# Altium footprint library CAMERON.PcbLib: 46 footprints (part 2 of 3)
Each footprint in its own frame and in the unit in brackets; x right, y up, seen from the top. Pads: shape width x height; smd on the part's side, far side on the other; paste and mask are expansions set on the pad; w line width, h text height; cw(c..) or ccw(c..) is an arc to the next point about the centre after c.
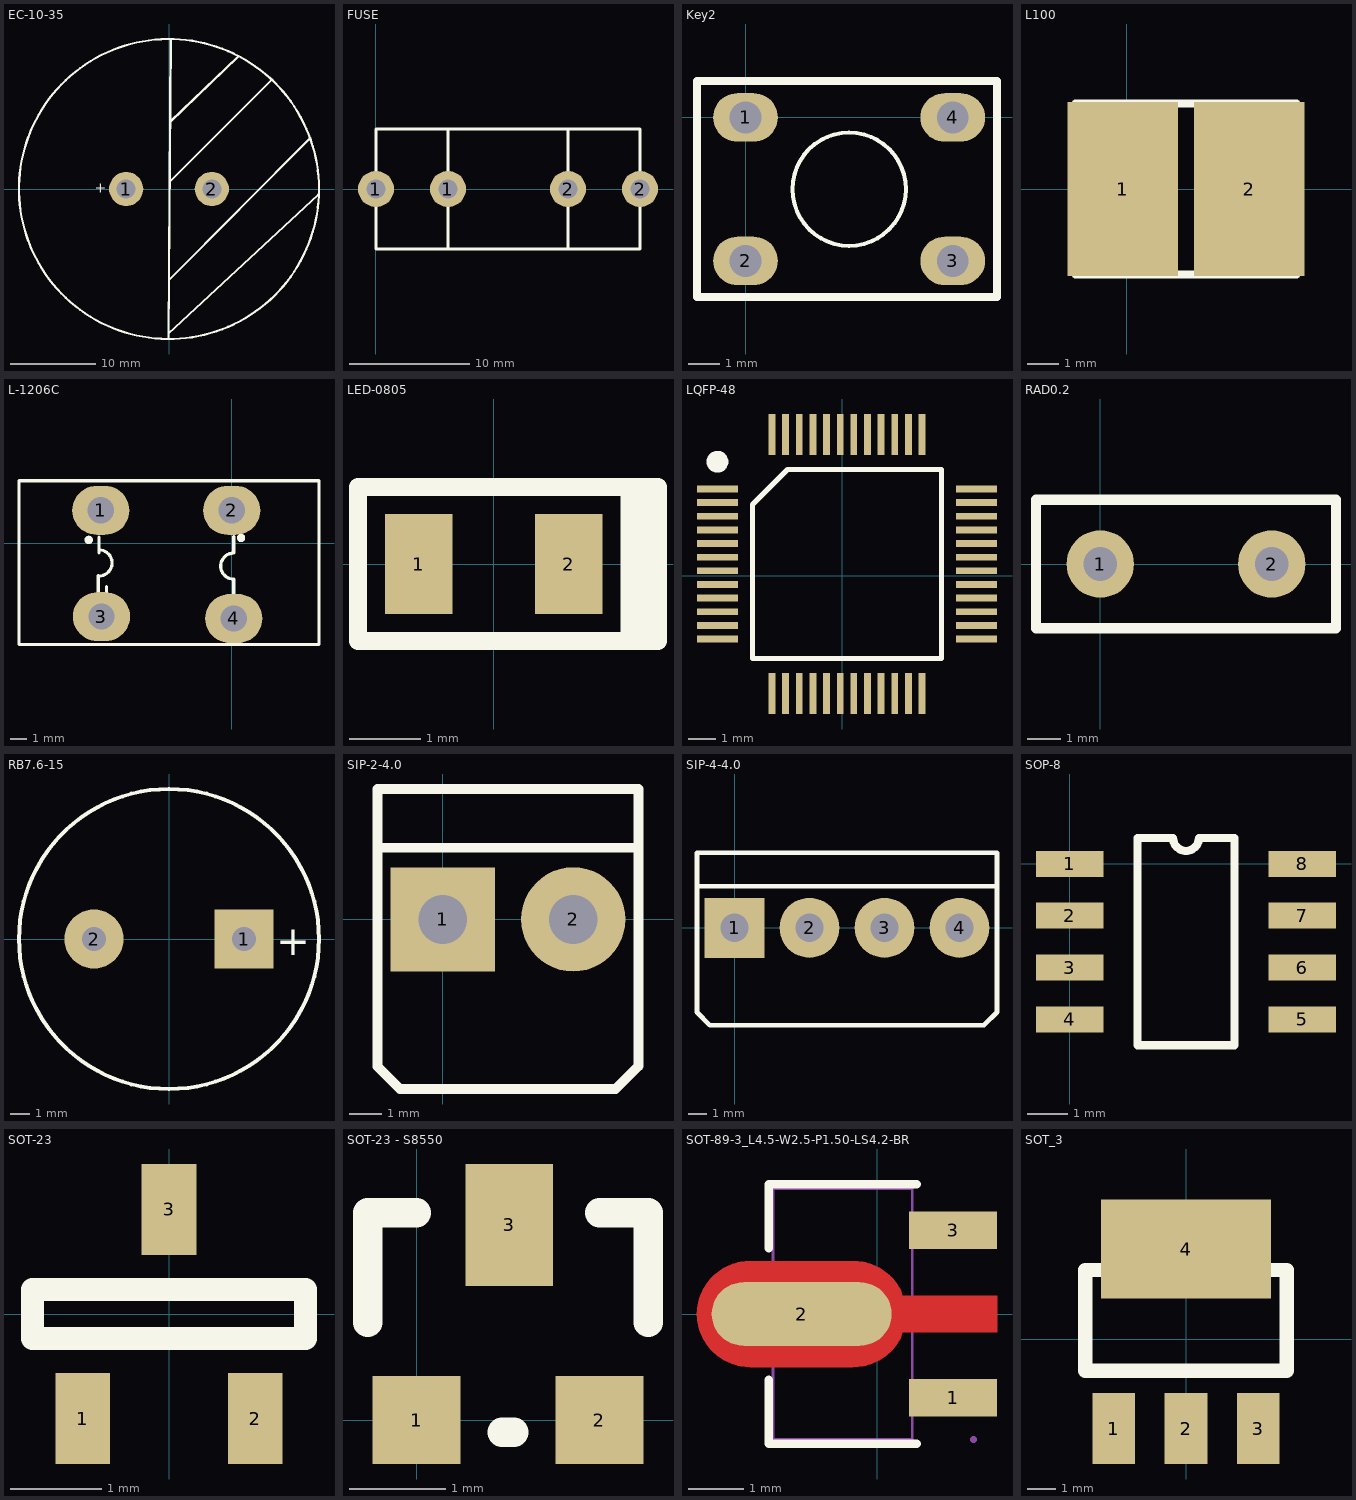
[diagram p1: the footprints below, top view; thin cyan lines are the x and y axes]

## EC-10-35 [mm]
pads (2):
  round 4 hole 2.2: 1(-5,0) 2(5,0)
Top Overlay:
  circle w0.254: c0,0 r17.5
  lines w0.254: -0.072,-17.45 0.203,17.475 ; -0.07,-16.89 17.402,-0.675 ; 0.031,-10.571 16.485,5.944 ; 0.072,0.737 0.072,0.834 11.989,12.751 12.04,12.751 ; 0.173,7.878 8.026,15.392
  text "+" at -8.636,-0.432 h1.2

## FUSE [mm]
pads (4):
  round 3 hole 1.6: 1(0,0) 1(6,0) 2(16,0) 2(22,0)
Top Overlay:
  lines w0.254: 6,-5 6,5 ; 16,-5 16,5 ; 0,-5 0,5 22,5 22,-5 0,-5

## Key2 [mm]
pads (4):
  oval 2.032x1.524 hole 1: 1(0,0) 2(0,-4.5) 3(6.5,-4.5) 4(6.5,0)
Top Overlay:
  circle w0.127: c3.25,-2.25 r1.778
  lines w0.254: 7.89,1.092 7.89,-5.63 -1.524,-5.63 -1.524,1.14 7.89,1.14

## L100 [mm]
pads (2):
  rect 3.5x5.5 smd paste+0: 1(-0.127,0)
  rect 3.5x5.5 smd: 2(3.873,0)
Top Overlay:
  lines w0.254: -1.627,-2.7 -1.627,2.7 5.373,2.7 5.373,-2.7 -1.627,-2.7

## L-1206C [mm]
pads (4):
  oval 3.5x3 hole 1.6: 1(-8,2) 2(0,2) 3(-7.96,-4.498) 4(0.127,-4.609)
Top Overlay:
  circle w0.254: c-8.739,0.193 r0.127
  circle w0.254: c0.571,0.312 r0.127
  lines w0.2: -13,-6.2 -13,3.8 ; -8.159,-4 -8.159,-2 ; -8.114,-2.017 ccw(c-8.114,-1.217) -8.114,-0.417 ; -8.114,-0.609 -8.114,0.351 ; -7.655,-3.067 -7.655,-2.667 ; 0.127,-4.209 0.127,-2.209 cw(c0.127,-1.409) 0.127,-0.609 0.127,0.391 ; 0.142,-5.885 0.142,-5.485 ; 5.334,-6.2 5.334,3.8
  lines w0.203: -13,-6.2 5.334,-6.2 ; -13,3.8 5.334,3.8

## LED-0805 [mm]
height 0.8
pads (2):
  rect 0.95x1.4 smd: 1(-1.05,0) 2(1.05,0)
Top Overlay:
  lines w0.254: 1.9,-1.08 1.9,1.08 ; 2.1,-1.08 2.1,1.08 ; -1.9,-1.08 -1.9,1.08 2.3,1.08 2.3,-1.08 -1.9,-1.08

## LQFP-48 [mm]
pads (48):
  rect 1.5x0.25 smd: 1(-4.568,3.175) 2(-4.568,2.675) 3(-4.568,2.175) 4(-4.568,1.675) 5(-4.568,1.175) 6(-4.568,0.675) 7(-4.568,0.175) 8(-4.568,-0.325) 9(-4.568,-0.825) 10(-4.568,-1.325) 11(-4.568,-1.825) 12(-4.568,-2.325) 25(4.932,-2.325) 26(4.932,-1.825) 27(4.932,-1.325) 28(4.932,-0.825) 29(4.932,-0.325) 30(4.932,0.175) 31(4.932,0.675) 32(4.932,1.175) 33(4.932,1.675) 34(4.932,2.175) 35(4.932,2.675) 36(4.932,3.175)
  rect 0.25x1.5 smd: 13(-2.568,-4.325) 14(-2.068,-4.325) 15(-1.568,-4.325) 16(-1.068,-4.325) 17(-0.568,-4.325) 18(-0.068,-4.325) 19(0.432,-4.325) 20(0.932,-4.325) 21(1.432,-4.325) 22(1.932,-4.325) 23(2.432,-4.325) 24(2.932,-4.325) 37(2.932,5.175) 38(2.432,5.175) 39(1.932,5.175) 40(1.432,5.175) 41(0.932,5.175) 42(0.432,5.175) 43(-0.068,5.175) 44(-0.568,5.175) 45(-1.068,5.175) 46(-1.568,5.175) 47(-2.068,5.175) 48(-2.568,5.175)
Top Overlay:
  circle w0.4: c-4.568,4.175 r0.2
  lines w0.2: -3.283,-3.04 -3.283,2.605 -1.998,3.89 3.647,3.89 3.647,-3.04 -3.283,-3.04

## RAD0.2 [mm]
pads (2):
  round 2 hole 1: 1(0,0) 2(5.08,0)
Top Overlay:
  lines w0.305: -1.905,-1.905 6.985,-1.905 6.985,1.905 -1.905,1.905 -1.905,-1.905

## RB7.6-15 [mm]
pads (2):
  rect 3x3 hole 1.2: 1(3.81,0)
  round 3 hole 1.2: 2(-3.81,0)
Top Overlay:
  circle w0.2: c0,0 r7.62
  text "+" at 5.436,-0.813 h1.5

## SIP-2-4.0 [mm]
pads (2):
  rect 3.2x3.2 hole 1.5: 1(0,0)
  round 3.2 hole 1.5: 2(4,0)
Top Overlay:
  lines w0.3: -2,2.2 6,2.2 ; -2,-4.51 -2,-4.5 -2,4 6,4 6,-4.5 5.3,-5.2 4.3,-5.2 -0.3,-5.2 -1.31,-5.2 -2,-4.51

## SIP-4-4.0 [mm]
pads (4):
  rect 3.2x3.2 hole 1.5: 1(0,0)
  round 3.2 hole 1.5: 2(4,0) 3(8,0) 4(12,0)
Top Overlay:
  lines w0.254: -2,2.21 14,2.21 ; -1.31,-5.2 13.3,-5.2 14,-4.5 14,4 -2,4 -2,-4.51 -1.31,-5.2 ; -1.31,-5.2 -1.31,-5.2 ; -2,2.2 -2,2.2

## SOP-8 [mil]
pads (8):
  rect 65x25 smd: 1(0,0) 2(0,-50) 3(0,-100) 4(0,-150) 5(224.41,-150) 6(224.41,-100) 7(224.41,-50) 8(224.41,0)
Top Overlay:
  lines w7.87: 65.37,-175 65.37,25 99.7,25 ccw(c112.2,25) 124.7,25 159.04,25 159.04,-175 65.37,-175

## SOT-23 [mm]
height 1.1
pads (3):
  rect 0.6x1 smd: 1(-0.95,-1.15) 2(0.95,-1.15) 3(0,1.15)
Top Overlay:
  lines w0.254: -1.5,-0.27 1.5,-0.27 1.5,0.27 -1.5,0.27 -1.5,-0.27

## SOT-23 - S8550 [mil]
pads (3):
  rect 36x36 smd: 1(0,0) 2(75,0)
  rect 36x50 smd: 3(38,80)
Top Overlay:
  lines w12: -20,40 -20,85 0,85 ; 35,-5 40,-5 ; 75,85 95,85 95,40

## SOT-89-3_L4.5-W2.5-P1.50-LS4.2-BR [mm]
pads (3):
  rect 1.575x0.672 smd: 1(1.356,-1.5) 3(1.356,1.5)
  oval 3.226x1.14 smd: 2(-1.356,0)
Top Layer:
  region: -2.283,0.95 -0.429,0.95 -0.384,0.949 -0.34,0.946 -0.296,0.94 -0.252,0.933 -0.208,0.924 -0.165,0.912 -0.123,0.899 -0.081,0.884 -0.04,0.866 0,0.847 0.04,0.826 0.078,0.803 0.115,0.779 0.151,0.752 0.185,0.724 0.219,0.695 0.251,0.664 0.281,0.631 0.31,0.597 0.337,0.562 0.362,0.525 0.386,0.488 0.408,0.449 0.428,0.409 0.447,0.33 2.144,0.33 2.144,-0.33 0.447,-0.33 0.428,-0.409 0.408,-0.449 0.386,-0.488 0.362,-0.526 0.337,-0.562 0.31,-0.597 0.281,-0.631 0.251,-0.664 0.219,-0.695 0.185,-0.725 0.151,-0.753 0.115,-0.779 0.078,-0.804 0.04,-0.827 0,-0.848 -0.04,-0.867 -0.081,-0.884 -0.123,-0.899 -0.165,-0.913 -0.208,-0.924 -0.252,-0.934 -0.296,-0.941 -0.34,-0.946 -0.384,-0.949 -0.429,-0.95 -2.283,-0.95 -2.328,-0.949 -2.372,-0.946 -2.416,-0.941 -2.46,-0.934 -2.504,-0.924 -2.547,-0.913 -2.589,-0.899 -2.631,-0.884 -2.672,-0.867 -2.713,-0.848 -2.752,-0.827 -2.79,-0.804 -2.827,-0.779 -2.863,-0.753 -2.898,-0.725 -2.931,-0.695 -2.963,-0.664 -2.993,-0.631 -3.022,-0.597 -3.049,-0.562 -3.075,-0.526 -3.098,-0.488 -3.12,-0.449 -3.141,-0.409 -3.159,-0.369 -3.175,-0.327 -3.189,-0.285 -3.202,-0.242 -3.212,-0.199 -3.22,-0.155 -3.227,-0.111 -3.231,-0.067 -3.233,-0.022 -3.233,0.022 -3.231,0.067 -3.227,0.111 -3.22,0.155 -3.212,0.199 -3.202,0.242 -3.189,0.285 -3.175,0.327 -3.159,0.369 -3.141,0.409 -3.12,0.449 -3.098,0.488 -3.075,0.525 -3.049,0.562 -3.022,0.597 -2.993,0.631 -2.963,0.664 -2.931,0.695 -2.898,0.724 -2.863,0.752 -2.827,0.779 -2.79,0.803 -2.752,0.826 -2.713,0.847 -2.672,0.866 -2.631,0.884 -2.589,0.899 -2.547,0.912 -2.504,0.924 -2.46,0.933 -2.416,0.94 -2.372,0.946 -2.328,0.949
Top Overlay:
  lines w0.152: -1.95,-1.177 -1.95,-2.326 0.702,-2.326 ; -1.95,1.177 -1.95,2.326 0.702,2.326
Mechanical 6:
  circle w0.3: c1.715,-1.5 r0.15
Mechanical 15:
  region: 1.784,-2.25 1.784,-2.225 1.749,-2.19 1.699,-2.19 1.664,-2.225 1.664,-2.25 1.664,-2.275 1.699,-2.31 1.749,-2.31 1.784,-2.275
  region: 0.439,-0.26 1.724,-0.26 1.724,0.26 0.439,0.26 -0.136,0.863 -2,0.863 -2.471,0.288 -2.471,-0.287 -2,-0.862 -0.136,-0.862
  region: 0.624,-1.25 1.724,-1.25 1.724,-1.75 0.624,-1.75
  region: 0.624,1.75 1.724,1.75 1.724,1.25 0.624,1.25
  lines w0.051: -1.874,-2.25 -1.874,2.25 0.626,2.25 0.626,-2.25 -1.874,-2.25

## SOT_3 [mm]
pads (4):
  rect 1.5x2.5 smd: 1(-2.54,-3.151) 2(0,-3.151) 3(2.54,-3.151)
  rect 6x3.5 smd: 4(0,3.175)
Top Overlay:
  lines w0.508: -3.556,-1.119 3.556,-1.119 3.556,2.437 -3.556,2.437 -3.556,-1.119
Top Solder:
  rectangle: -3.048,1.397 3.048,4.989